# Altium schematic symbol library CUBAJA.SchLib: 72 symbols
Pins are listed as number, name and electrical type; pins without a type are passive.

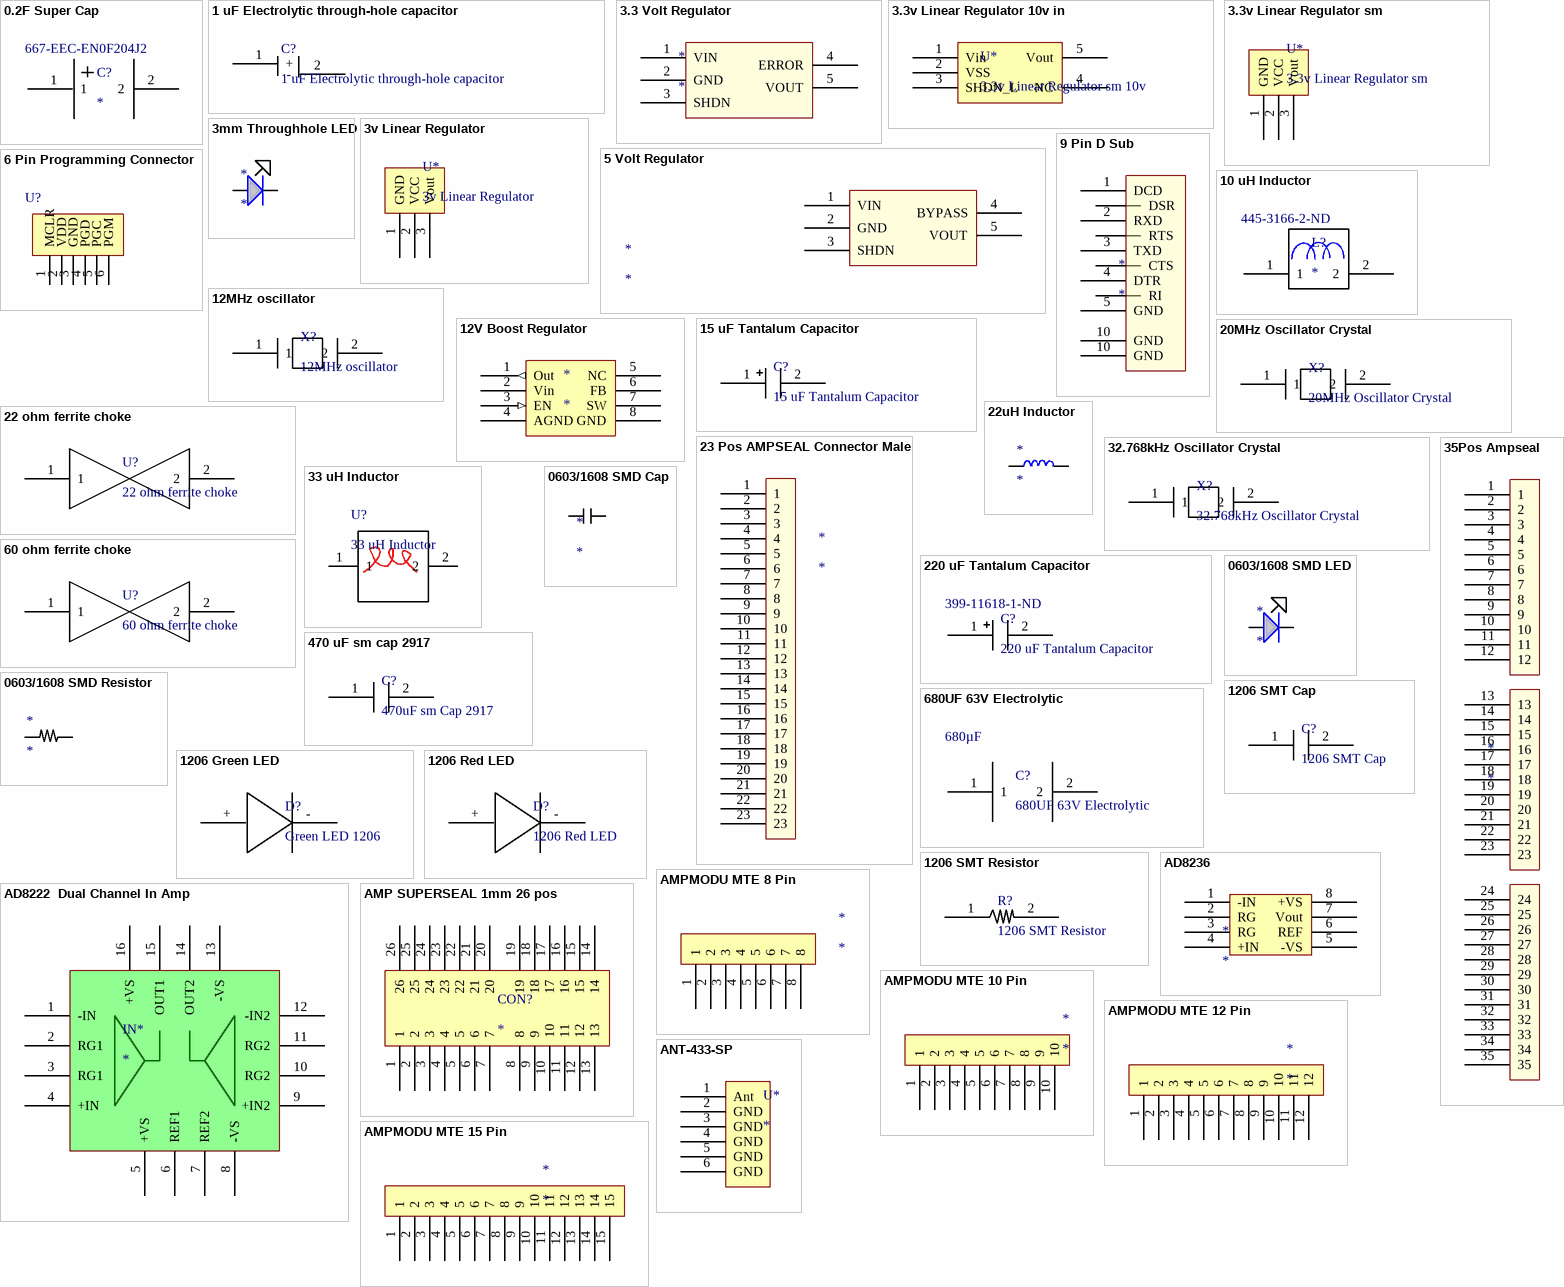
[diagram p0: symbols 0.2F Super Cap to ANT-433-SP]

## 0.2F Super Cap
designator C?  Supplier Part Number 1: 667-EEC-EN0F204J2
Super Cap 0.2 F; Manufacturer: Panasonic Electronic Components; Manufacturer Part Number: EEC-EN0F204J2; Description: Supercapacitors / Ultracapacitors 0.2F 3.3volts; Capacitance: 0.2 Farad; Voltage Rating: 3.3 Volts; Capacitance - uF: 200000 uF; Case Diameter: 6.8 mm; Case Height: 1.85 mm; Supplier 1: Mouser; RoHS: RoHS Compliant; Category: Supercapacitors / Ultracapacitors; Stock 1: 347; Pricing 1: 1=3.28, 25=2.52, 100=2.40, 250=2.24, 500=2.00, 1000=1.59, 2000=1.06, 4000=1.02, 10000=0.969 (AUD); Dimensions: 6.8 mm Dia. x 1.85 mm H; Operating Temperature Range: - 10 C to + 60 C; Packaging: Reel; Product: Supercapacitors; Termination Style: SMD/SMT; Product Category: .; Standard Pack Qty: 2000; RoHS - Mouser: Y; Minimum Order Quantity: 1; Reeling: True; ComponentLink1URL: http://www.panasonic.com/industrial/components/pdf/ABC0000CE19.pdf; ComponentLink1Description: http://www.panasonic.com/industrial/components/pdf/ABC0000CE19.pdf
footprint Super Cap 0.2F
pins: 1, 2

## 1 uF Electrolytic through-hole capacitor
designator C?
1 uF Electrolytic through-hole decoupling capacitor; ComponentLink1URL: http://search.digikey.com/scripts/DkSearch/dksus.dll?WT.z_header=search_go&lang=en&site=us&keywords=P13460-ND&x=0&y=0; ComponentLink1Description: Datasheet for 1uF Electrolytic Capacitor
footprint Through hole electrolytic capacitor 1uF
pins: 1 +, 2 -

## 3.3 Volt Regulator
designator *
footprint 3.3 Volt Regulator (SOT23, 5-Leads, Body 3.1x3.2mm (max), Pitch 0.95mm, IPC Medium Density)
pins: 1 VIN, 2 GND, 3 SHDN, 4 ERROR, 5 VOUT

## 3.3v Linear Regulator 10v in
designator U*, comment 3.3v Linear Regulator sm 10v
MCP 1801 surface mount 3.3v reg up to 10 v input
footprint 5-pin SOT-23 (surface mount linear regulator footprint)
pins: 1 Vin, 2 VSS, 3 SHDN_L, 4 NC, 5 Vout

## 3.3v Linear Regulator sm
designator U*
MCP 1700 surface mount 3v Linear Regulator
footprint 3-pin SOT-23 (surface mount linear regulator footprint)
pins: 1 GND, 2 VCC, 3 Vout

## 3mm Throughhole LED
designator *
Manufacturer ID: LTL-4252N
footprint 3 mm Throughhole LED
pins: 0, 1

## 3v Linear Regulator
designator U*
MCP 1700 3v Linear Regulator
footprint MCP1700 3v Linear Regulator (Linear Regulator, pins must be bent out to fit this footprint)
pins: 1 GND, 2 VCC, 3 Vout

## 5 Volt Regulator
designator *
footprint 5 Volt Regulator (SOT23, 5-Leads, Body 3.1x3.0mm (max), Pitch 0.95mm, IPC Medium Density)
pins: 1 VIN, 2 GND, 3 SHDN, 4 BYPASS, 5 VOUT

## 6 Pin Programming Connector
designator U?  (value not drawn)
6 pin jtag programming connector tyco; ComponentLink1Description: Datasheet for 6-pin Connector; ComponentLink1URL: http://documents.tycoelectronics.com/commerce/DocumentDelivery/DDEController?Action=srchrtrv&DocNm=641213&DocType=CD&DocLang=EN
footprint 6-pin connector
pins: 1 MCLR, 2 VDD, 3 GND, 4 PGD, 5 PGC, 6 PGM

## 9 Pin D Sub
designator *
footprint 9 Pin D Sub
pins: 1 DCD, 2 RXD, 3 TXD, 4 DTR, 5 GND, 6 DSR, 7 RTS, 8 CTS, 9 RI, 10 GND, 10 GND

## 10 uH Inductor
designator L?  Supplier Part Number 2: 445-3166-2-ND
10 uH Inductor; Manufacturer: TDK Corporation; Manufacturer Part Number: MLZ1608E100M; Description: INDUCTOR MULTILAYER 10UH 0603; Inductance: 10µH; Current: 40mA; Tolerance: ±20%; Shielding: Shielded; DC Resistance (DCR): 900 mOhm; Frequency - Self Resonant: 30MHz; Frequency - Test: 2MHz; Supplier 1: Digi-Key; Supplier 2: Digi-Key; RoHS: RoHS Compliant; Category: Inductors, Coils, Chokes; Stock 2: 16000; Pricing 2: 4000=0.045, 8000=0.0425, 12000=0.04, 28000=0.03875, 100000=0.03625 (USD); Current - Saturation: -; Type: -; Q @ Freq: -; Material - Core: -; Operating Temperature: -55°C ~ 125°C; Package / Case: 0603 (1608 Metric); Mounting Type: Surface Mount; Packaging: Tape & Reel (TR); ComponentLink1URL: http://www.tdk.com/pdf/e533_mlz1608.pdf; ComponentLink1Description: http://www.tdk.com/pdf/e533_mlz1608.pdf
footprint 10 uH Inductor
pins: 1, 2

## 12MHz oscillator
designator X?
Abracon ABM2-12.000MHZ-D4Y-T
footprint ABM2 crystal oscillator footprint (main board ML08)
pins: 1, 2

## 12V Boost Regulator
designator *
MIC2290
pins: 1 Out (out), 2 Vin (power), 3 EN (in), 4 AGND, 5 NC, 6 FB, 7 SW, 8 GND

## 15 uF Tantalum Capacitor
designator C?
1206 Surface Mount Capacitor; Supplier 1: Digi-Key; Supplier Part Number 1: 399-8272-1-ND
footprint 1206 (POLAR)
pins: 1, 2

## 20MHz Oscillator Crystal
designator X?
20MHz Crystal Oscillator.  Note that this requires load capacitors; ComponentLink1URL: http://search.digikey.com/scripts/DkSearch/dksus.dll?Detail&name=X985-ND; ComponentLink1Description: Digikey link for 20MHz Oscillator
footprint 20MHz Crystal Oscillator
pins: 1, 2

## 22 ohm ferrite choke
designator U?
choke for removing high frequencies
footprint 0603 ferrite choke
pins: 1, 2

## 22uH Inductor
designator *
footprint 22uH Inductor
pins: 1, 2

## 23 Pos AMPSEAL Connector Male
designator *
footprint 23Pos AMPSEAL
pins: 1, 2, 3, 4, 5, 6, 7, 8, 9, 10, 11, 12, 13, 14, 15, 16, 17, 18, 19, 20, 21, 22, 23

## 32.768kHz Oscillator Crystal
designator X?
32.768kHz Crystal Oscillator.  Note that this requires load capacitors; ComponentLink1URL: http://search.digikey.com/scripts/DkSearch/dksus.dll?Detail&name=X985-ND; ComponentLink1Description: Digikey link for 20MHz Oscillator
footprint CFS 206 tuning fork crystal (ML08 main board)
pins: 1, 2

## 33 uH Inductor
designator U?
INDUCTOR POWER 33UH 4.2A SMD Wurth Electronic; ComponentLink1Description: Inductor Datasheet; ComponentLink1URL1: http://www.we-online.com/katalog/media/pdf/7447709330.pdf
footprint 33 HU INDUCTOR (INDUCTOR POWER 33UH 4.2A SMD Wurth)
pins: 1, 2

## 35Pos Ampseal
designator *
footprint 35Pos Ampseal
pins: 1, 2, 3, 4, 5, 6, 7, 8, 9, 10, 11, 12, 13, 14, 15, 16, 17, 18, 19, 20, 21, 22, 23, 24, 25, 26, 27, 28, 29, 30, 31, 32, 33, 34, 35

## 60 ohm ferrite choke
designator U?
choke for removing high frequencies (used with wireless)
footprint 0603 ferrite choke
pins: 1, 2

## 220 uF Tantalum Capacitor
designator C?  Supplier Part Number 1: 399-11618-1-ND
2312 Surface Mount Capacitor; Supplier 1: Digi-Key
footprint 2312 Surface Mount (POLAR)
pins: 1, 2

## 470 uF sm cap 2917
designator C?, comment 470uF sm Cap 2917
470uF sm tantalum cap for switching power supply 2917; ComponentLink1Description: Datasheet for .1 uF Capacitor; ComponentLink1URL: http://www.kemet.com/kemet/web/homepage/kechome.nsf/vapubfiles/F3102_X7R.pdf/$file/F3102_X7R.pdf
footprint 2917 Surface Mount Capacitor
pins: 1, 2

## 0603/1608 SMD Cap
designator *
footprint 0603/1608 SMD Resistor
pins: 1, 2

## 0603/1608 SMD LED
designator *
footprint 0603/1608 SMD LED
pins: 1, 2

## 0603/1608 SMD Resistor
designator *
footprint 0603/1608 SMD Resistor
pins: 1, 2

## 680UF 63V Electrolytic
designator C?  Capacitance: 680µF
Manufacturer: Panasonic - ECG; Manufacturer Part Number: ECO-S1JA681BA; Description: CAPACITOR 680UF 63V ELECT TSHA; Tolerance: ±20%; Lifetime @ Temp.: 3000 Hrs @ 105°C; Ripple Current: 900mA; ESR (Equivalent Series Resistance): 414.0 mOhm; Supplier 1: Digi-Key; RoHS: RoHS Compliant; Category: Capacitors; Stock 1: 228; Pricing 1: 1=1.89, 50=1.587, 200=1.1033, 1000=0.98241 (USD); Voltage Rating: 63V; Operating Temperature: -40°C ~ 105°C; Features: General Purpose; Impedance: -; Mounting Type: Through Hole; Package / Case: Radial, Can - Snap-In; Size / Dimension: 0.866" Dia (22.00mm); Height: 0.984" (25.00mm); Lead Spacing: 0.394" (10.00mm); Surface Mount Land Size: -; Packaging: Bulk; ComponentLink1Description: http://www.panasonic.com/industrial/components/pdf/pic_ts-ha_dne.pdf; ComponentLink1URL: http://www.panasonic.com/industrial/components/pdf/pic_ts-ha_dne.pdf; Supplier Part Number 1: P7469-ND
footprint Capacitor 680 uF
pins: 1, 2

## 1206 Green LED
designator D?, comment Green LED 1206
Green surface mount LED
footprint Cathode Mark 1206 led footprint (OSRAM semiconductor)
pins: +, -

## 1206 Red LED
designator D?
Red surface mount LED
footprint Anode Mark 1206 led footprint (OSRAM semiconductor)
pins: +, -

## 1206 SMT Cap
designator C?
.1 uF decoupling caps.  you probably want this for your project; ComponentLink1Description: Datasheet for .1 uF Capacitor; ComponentLink1URL: http://www.kemet.com/kemet/web/homepage/kechome.nsf/vapubfiles/F3102_X7R.pdf/$file/F3102_X7R.pdf
footprint Surface Mount Capacitor 1206
pins: 1, 2

## 1206 SMT Resistor
designator R?
0 ohm surface mount resistor.; ComponentLink1URL: http://industrial.panasonic.com/www-cgi/jvcr13pz.cgi?E+PZ+3+AOA0001+ERJ8GEYJ103V+7+WW; ComponentLink1Description: Datasheet for 10k Resistor
footprint 1206 surface mount resistor
pins: 1, 2

## AD8222  Dual Channel In Amp
designator IN*
footprint AD8222 Dual In Amp (QFN, 16-Leads, Body 4.0x4.0mm (max), Pitch 0.65mm, IPC Medium Density)
pins: 1 -IN, 2 RG1, 3 RG1, 4 +IN, 5 +VS, 6 REF1, 7 REF2, 8 -VS, 9 +IN2, 10 RG2, 11 RG2, 12 -IN2, 13 -VS, 14 OUT2, 15 OUT1, 16 +VS

## AD8236
designator *
footprint AD8236 (TSOP, 8-Leads, Body 3.2x3.2mm (max), Pitch 0.65mm, IPC Medium Density)
pins: 1 -IN, 2 RG, 3 RG, 4 +IN, 5 -VS, 6 REF, 7 Vout, 8 +VS

## AMP SUPERSEAL 1mm 26 pos
designator CON?
footprint Super Seal 26 pos
pins: 1, 2, 3, 4, 5, 6, 7, 8, 9, 10, 11, 12, 13, 14, 15, 16, 17, 18, 19, 20, 21, 22, 23, 24, 25, 26

## AMPMODU MTE 8 Pin
designator *
footprint AMPMODU 8 Pin
pins: 1, 2, 3, 4, 5, 6, 7, 8

## AMPMODU MTE 10 Pin
designator *
footprint AMPMODU 10 Pin
pins: 1, 2, 3, 4, 5, 6, 7, 8, 9, 10

## AMPMODU MTE 12 Pin
designator *
footprint AMPMODU 12 Pin
pins: 1, 2, 3, 4, 5, 6, 7, 8, 9, 10, 11, 12

## AMPMODU MTE 15 Pin
designator *
footprint AMPMODU 15 Pin
pins: 1, 2, 3, 4, 5, 6, 7, 8, 9, 10, 11, 12, 13, 14, 15

## ANT-433-SP
designator U*
433 MHz Chip Antenna
footprint ANT-433-SP
footprint ANT-433-SP
pins: 1 Ant, 2 GND, 3 GND, 4 GND, 5 GND, 6 GND

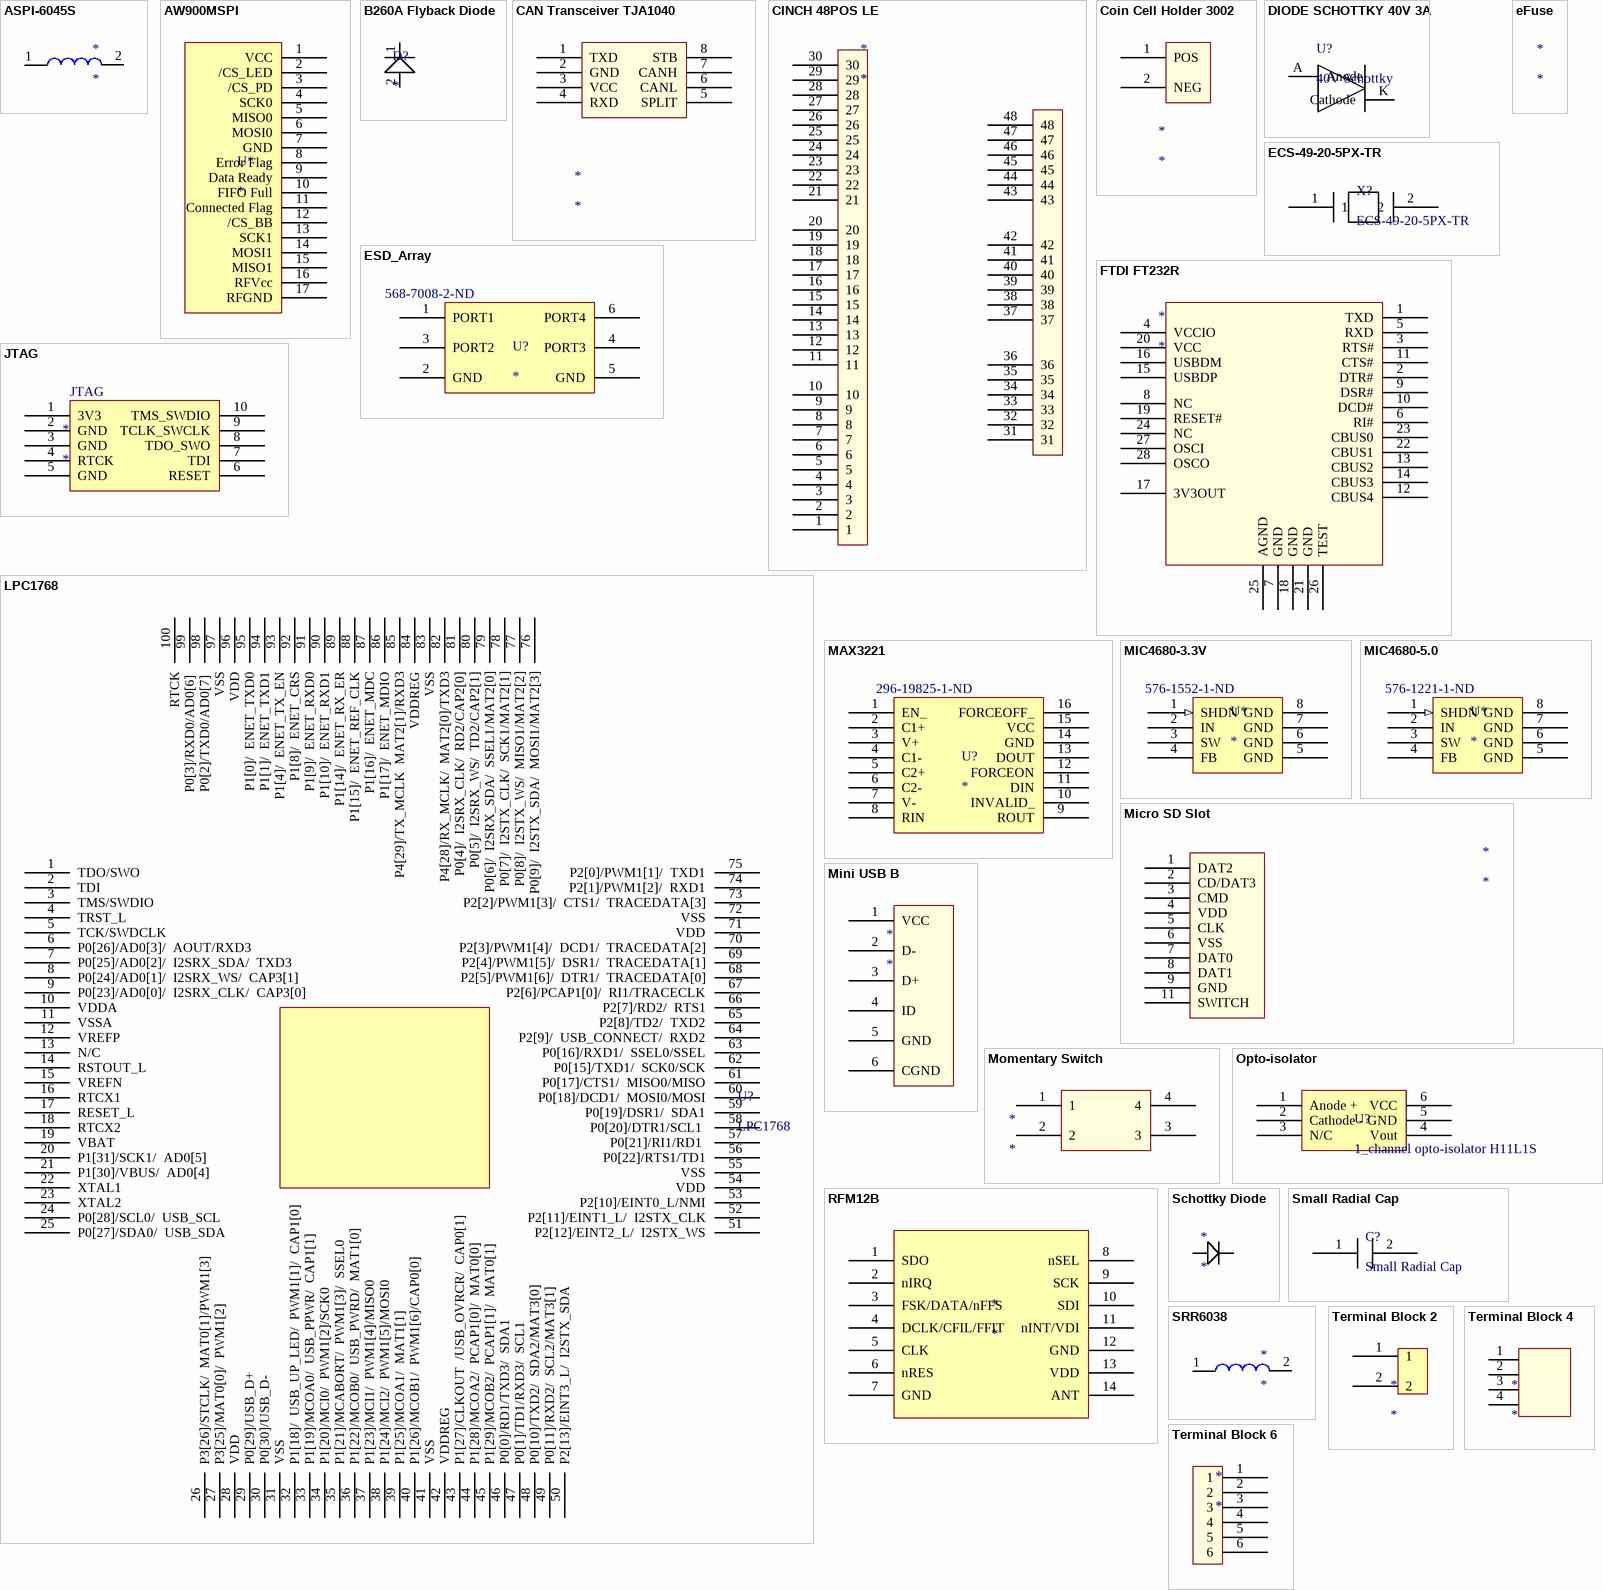
[diagram p1: symbols ASPI-6045S to Terminal Block 6]

## ASPI-6045S
designator *
68 uH 1.2A surface mount inductor
footprint ASPI-6045
pins: 1, 2

## AW900MSPI
designator U*
footprint AW900MSPI
pins: 1 VCC, 2 /CS_LED, 3 /CS_PD, 4 SCK0, 5 MISO0, 6 MOSI0, 7 GND, 8 Error Flag, 9 Data Ready, 10 FIFO Full, 11 Connected Flag, 12 /CS_BB, 13 SCK1, 14 MOSI1, 15 MISO1, 16 RFVcc, 17 RFGND

## B260A Flyback Diode
designator D?
footprint DO-214AC
pins: 1, 2

## CAN Transceiver TJA1040
designator *
footprint CAN Transceiver (SOIC, 8-Leads, Body 5.0x4.0mm (max), Pitch 1.27mm, IPC Medium Density)
pins: 1 TXD, 2 GND, 3 VCC, 4 RXD, 5 SPLIT, 6 CANL, 7 CANH, 8 STB

## CINCH 48POS LE
designator *
Cinch ModICE Enclosure Header
footprint CInch 48 POS
pins: 1, 2, 3, 4, 5, 6, 7, 8, 9, 10, 11, 12, 13, 14, 15, 16, 17, 18, 19, 20, 21, 22, 23, 24, 25, 26, 27, 28, 29, 30, 31, 32, 33, 34, 35, 36, 37, 38, 39, 40, 41, 42, 43, 44, 45, 46, 47, 48

## Coin Cell Holder 3002
designator *
3002
footprint Coin Cell Holder
pins: 1 POS, 2 NEG

## DIODE SCHOTTKY 40V 3A
designator U?, comment 40V Schottky
DIODE SCHOTTKY 40V 3A SMA; ComponentLink1Description: Diode Datasheet; ComponentLink1URL: http://www.diodes.com/datasheets/ds30240.pdf
footprint DIODE SCHOTTKY 40V 3A SMA
pins: A Anode, K Cathode

## ECS-49-20-5PX-TR
designator X?
4.9152MHz surface mount oscillator
footprint ECS-49-20-5PX-TR
pins: 1, 2

## eFuse
designator *

## ESD_Array
designator U?  Supplier Part Number 1: 568-7008-2-ND
ESD Protection Diodes; Supplier 1: Digi-Key
pins: 1 PORT1, 2 GND, 3 PORT2, 4 PORT3, 5 GND, 6 PORT4

## FTDI FT232R
designator *
FTDI FT232R
footprint FTDI FT232R (SOP, 28-Leads, Body 10.5x5.6mm (max), Pitch 0.65mm, IPC Medium Density)
pins: 1 TXD, 2 DTR#, 3 RTS#, 4 VCCIO, 5 RXD, 6 RI#, 7 GND, 8 NC, 9 DSR#, 10 DCD#, 11 CTS#, 12 CBUS4, 13 CBUS2, 14 CBUS3, 15 USBDP, 16 USBDM, 17 3V3OUT, 18 GND, 19 RESET#, 20 VCC, 21 GND, 22 CBUS1, 23 CBUS0, 24 NC, 25 AGND, 26 TEST, 27 OSCI, 28 OSCO

## JTAG
designator *
Sullins GRPB052VWQS-RC
footprint JTAG
pins: 1 3V3, 2 GND, 3 GND, 4 RTCK, 5 GND, 6 RESET, 7 TDI, 8 TDO_SWO, 9 TCLK_SWCLK, 10 TMS_SWDIO

## LPC1768
designator U?
100 pin ARM microcontroller
footprint 100 pin .5 mm pitch lpqfp (lpc1768)
pins: 1 TDO/SWO , 2 TDI, 3 TMS/SWDIO, 4 TRST_L, 5 TCK/SWDCLK, 6 P0[26]/AD0[3]/  AOUT/RXD3, 7 P0[25]/AD0[2]/  I2SRX_SDA/  TXD3, 8 P0[24]/AD0[1]/  I2SRX_WS/  CAP3[1], 9 P0[23]/AD0[0]/  I2SRX_CLK/  CAP3[0], 10 VDDA, 11 VSSA, 12 VREFP, 13 N/C, 14 RSTOUT_L, 15 VREFN, 16 RTCX1, 17 RESET_L, 18 RTCX2, 19 VBAT, 20 P1[31]/SCK1/  AD0[5], 21 P1[30]/VBUS/  AD0[4], 22 XTAL1, 23 XTAL2, 24 P0[28]/SCL0/  USB_SCL, 25 P0[27]/SDA0/  USB_SDA, 26 P3[26]/STCLK/  MAT0[1]/PWM1[3], 27 P3[25]/MAT0[0]/  PWM1[2], 28 VDD, 29 P0[29]/USB_D+ , 30 P0[30]/USB_D-, 31 VSS, 32 P1[18]/  USB_UP_LED/  PWM1[1]/  CAP1[0], 33 P1[19]/MCOA0/  USB_PPWR/  CAP1[1], 34 P1[20]/MCI0/  PWM1[2]/SCK0, 35 P1[21]/MCABORT/  PWM1[3]/  SSEL0, 36 P1[22]/MCOB0/  USB_PWRD/  MAT1[0], 37 P1[23]/MCI1/  PWM1[4]/MISO0, 38 P1[24]/MCI2/  PWM1[5]/MOSI0, 39 P1[25]/MCOA1/  MAT1[1], 40 P1[26]/MCOB1/  PWM1[6]/CAP0[0], 41 VSS, 42 VDDREG, 43 P1[27]/CLKOUT  /USB_OVRCR/  CAP0[1], 44 P1[28]/MCOA2/  PCAP1[0]/  MAT0[0], 45 P1[29]/MCOB2/  PCAP1[1]/  MAT0[1], 46 P0[0]/RD1/TXD3/  SDA1, 47 P0[1]/TD1/RXD3/  SCL1, 48 P0[10]/TXD2/  SDA2/MAT3[0], 49 P0[11]/RXD2/  SCL2/MAT3[1], 50 P2[13]/EINT3_L/  I2STX_SDA, 51 P2[12]/EINT2_L/  I2STX_WS, 52 P2[11]/EINT1_L/  I2STX_CLK, 53 P2[10]/EINT0_L/NMI, 54 VDD, 55 VSS, 56 P0[22]/RTS1/TD1, 57 P0[21]/RI1/RD1 , 58 P0[20]/DTR1/SCL1 , 59 P0[19]/DSR1/  SDA1, 60 P0[18]/DCD1/  MOSI0/MOSI, 61 P0[17]/CTS1/  MISO0/MISO, 62 P0[15]/TXD1/  SCK0/SCK, 63 P0[16]/RXD1/  SSEL0/SSEL, 64 P2[9]/  USB_CONNECT/  RXD2, 65 P2[8]/TD2/  TXD2, 66 P2[7]/RD2/  RTS1, 67 P2[6]/PCAP1[0]/  RI1/TRACECLK, 68 P2[5]/PWM1[6]/  DTR1/  TRACEDATA[0], 69 P2[4]/PWM1[5]/  DSR1/  TRACEDATA[1], 70 P2[3]/PWM1[4]/  DCD1/  TRACEDATA[2], 71 VDD, 72 VSS, 73 P2[2]/PWM1[3]/  CTS1/  TRACEDATA[3], 74 P2[1]/PWM1[2]/  RXD1, 75 P2[0]/PWM1[1]/  TXD1, 76 P0[9]/  I2STX_SDA/  MOSI1/MAT2[3], 77 P0[8]/  I2STX_WS/  MISO1/MAT2[2], 78 P0[7]/  I2STX_CLK/  SCK1/MAT2[1], 79 P0[6]/  I2SRX_SDA/  SSEL1/MAT2[0], 80 P0[5]/  I2SRX_WS/  TD2/CAP2[1], 81 P0[4]/  I2SRX_CLK/  RD2/CAP2[0], 82 P4[28]/RX_MCLK/  MAT2[0]/TXD3, 83 VSS, 84 VDDREG, 85 P4[29]/TX_MCLK  MAT2[1]/RXD3, 86 P1[17]/  ENET_MDIO, 87 P1[16]/  ENET_MDC, 88 P1[15]/  ENET_REF_CLK, 89 P1[14]/  ENET_RX_ER, 90 P1[10]/  ENET_RXD1, 91 P1[9]/  ENET_RXD0, 92 P1[8]/  ENET_CRS, 93 P1[4]/  ENET_TX_EN, 94 P1[1]/  ENET_TXD1, 95 P1[0]/  ENET_TXD0, 96 VDD, 97 VSS, 98 P0[2]/TXD0/AD0[7] , 99 P0[3]/RXD0/AD0[6] , 100 RTCK

## MAX3221
designator U?  Supplier Part Number 1: 296-19825-1-ND
RS232 to USART; Supplier 1: Digi-Key
pins: 1 EN_, 2 C1+, 3 V+, 4 C1-, 5 C2+, 6 C2-, 7 V-, 8 RIN, 9 ROUT, 10 INVALID_, 11 DIN, 12 FORCEON, 13 DOUT, 14 GND, 15 VCC, 16 FORCEOFF_

## MIC4680-3.3V
designator U*  Supplier Part Number 1: 576-1552-1-ND
3.3V Fixed Switching Regulator 1A; Supplier 1: Digi-Key
footprint SOIC8
pins: 1 SHDN (in), 2 IN, 3 SW, 4 FB, 5 GND, 6 GND, 7 GND, 8 GND

## MIC4680-5.0
designator U*  Supplier Part Number 1: 576-1221-1-ND
5V Fixed Switching Regulator 1A; Supplier 1: Digi-Key
footprint SOIC8
pins: 1 SHDN (in), 2 IN, 3 SW, 4 FB, 5 GND, 6 GND, 7 GND, 8 GND

## Micro SD Slot
designator *
DM3CS-SF
footprint SD Slot
pins: 1 DAT2, 2 CD/DAT3, 3 CMD, 4 VDD, 5 CLK, 6 VSS, 7 DAT0, 8 DAT1, 9 GND, 11 SWITCH

## Mini USB B
designator *
TE 1734035-2
footprint Mini USB B
pins: 1 VCC, 2 D-, 3 D+, 4 ID, 5 GND, 6 CGND

## Momentary Switch
designator *
TE FSM4JSMATR
footprint Momentary Switch
pins: 1, 2, 3, 4

## Opto-isolator
designator U?, comment 1_channel opto-isolator H11L1S
6 pin photo coupler schmitt trigger H11L1S
footprint SOP6
pins: 1 Anode +, 2 Cathode -, 3 N/C, 4 Vout, 5 GND, 6 VCC

## RFM12B
designator *
Short Range Wireless module
footprint RFM12B
pins: 1 SDO, 2 nIRQ, 3 FSK/DATA/nFFS, 4 DCLK/CFIL/FFIT, 5 CLK, 6 nRES, 7 GND, 8 nSEL, 9 SCK, 10 SDI, 11 nINT/VDI, 12 GND, 13 VDD, 14 ANT

## Schottky Diode
designator *
footprint Scottky Diode (SOT23, 3-Leads, Body 3.1x2.6mm (max), Pitch 1.00mm, IPC Medium Density)
pins: 1, 3

## Small Radial Cap
designator C?
A general purpose small radial cap used for 20pF and .47 uF; ComponentLink1URL: http://media.digikey.com/pdf/Catalog%20Drawings/Capacitors/RPE%202%20P1_1.jpg; ComponentLink1Description: Datasheet for Radial Capacitor
footprint Radial Capacitor
pins: 1, 2
1 alternate drawing of the same symbol

## SRR6038
designator *
10 uH 2A surface mount inductor
footprint SRR6038
pins: 1, 2

## Terminal Block 2
designator *
Phoenix Contact 1935161
footprint Terminal Block 2
pins: 1, 2

## Terminal Block 4
designator *
Phoenix Contact 1935161
footprint Terminal Block 4
pins: 1, 2, 3, 4

## Terminal Block 6
designator *
Phoenix Contact 1935161
footprint Model Name (Model Description)
pins: 1, 2, 3, 4, 5, 6

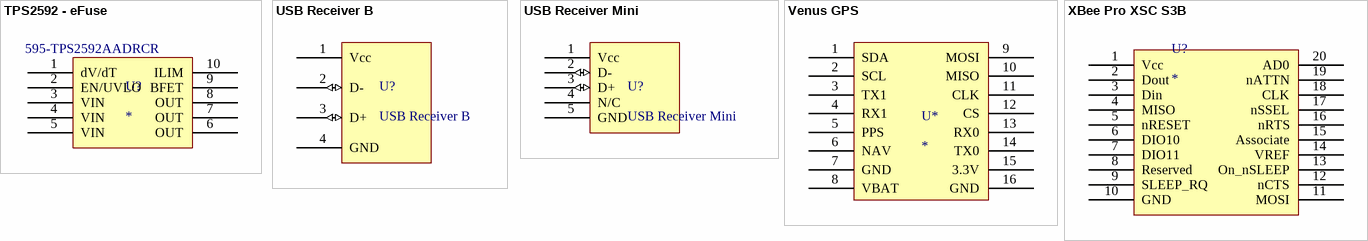
[diagram p2: symbols TPS2592 - eFuse to XBee Pro XSC S3B]

## TPS2592 - eFuse
designator U?  Supplier Part Number 1: 595-TPS2592AADRCR
Supplier 1: Mouser
pins: 1 dV/dT, 2 EN/UVLO, 3 VIN, 4 VIN, 5 VIN, 6 OUT, 7 OUT, 8 OUT, 9 BFET, 10 ILIM

## USB Receiver B
designator U?
USB B Type B Receiver (full size); ComponentLink1URL: http://portal.fciconnect.com/res/en/pdffiles/doc_search/61729.pdf; ComponentLink1Description: Datasheet for USB Type B receiver
footprint USB Receiver (USB Type B Receiver)
pins: 1 Vcc (power), 2 D- (io), 3 D+ (io), 4 GND (power)

## USB Receiver Mini
designator U?
USB B Type B Receiver (mini); ComponentLink1URL: http://portal.fciconnect.com/res/en/pdffiles/doc_search/61729.pdf; ComponentLink1Description: Datasheet for USB Type B receiver
footprint USB Type B mini recepticle surface mount (UX60SC-MB-5ST(80))
pins: 1 Vcc (power), 2 D- (io), 3 D+ (io), 4 N/C (power), 5 GND

## Venus GPS
designator U*
Venus GPS Board from Sparkfun
footprint Venus GPS
pins: 1 SDA, 2 SCL, 3 TX1, 4 RX1, 5 PPS, 6 NAV, 7 GND, 8 VBAT, 9 MOSI, 10 MISO, 11 CLK, 12 CS, 13 RX0, 14 TX0, 15 3.3V, 16 GND

## XBee Pro XSC S3B
designator U?
footprint XBee Pro
pins: 1 Vcc, 2 Dout, 3 Din, 4 MISO, 5 nRESET, 6 DIO10, 7 DIO11, 8 Reserved, 9 SLEEP_RQ, 10 GND, 11 MOSI, 12 nCTS, 13 On_nSLEEP, 14 VREF, 15 Associate, 16 nRTS, 17 nSSEL, 18 CLK, 19 nATTN, 20 AD0